# EAGLE library part NUCLEO-F411RE (library prj-ips-jmb)
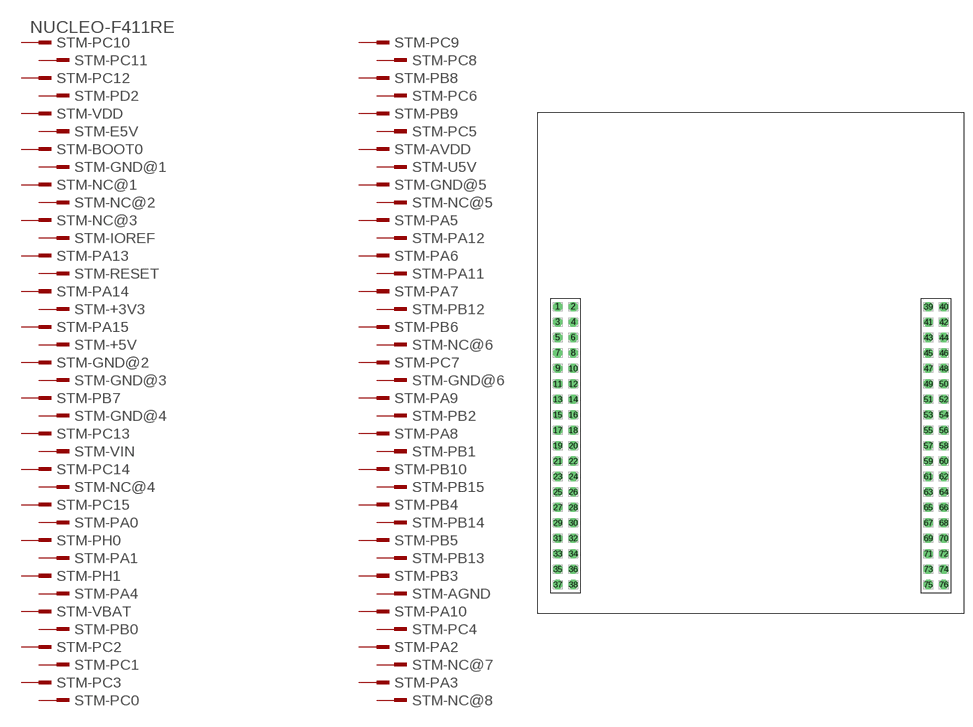
[diagram p1: symbol with the pads of CONN_STM32_NUCLEO; footprint CONN_STM32_NUCLEO]

Designator prefix STM-; gates PC10=MPINV PC11=MPIN PC12=MPIN PD2=MPIN VDD=MPIN E5V=MPIN BOOT0=MPIN GND@1=MPIN NC@1=MPIN NC@2=MPIN NC@3=MPIN IOREF=MPIN PA13=MPIN RESET=MPIN PA14=MPIN +3V3=MPIN PA15=MPIN +5V=MPIN GND@2=MPIN GND@3=MPIN PB7=MPIN GND@4=MPIN PC13=MPIN VIN=MPIN PC14=MPIN NC@4=MPIN PC15=MPIN PA0=MPIN PH0=MPIN PA1=MPIN PH1=MPIN PA4=MPIN VBAT=MPIN PB0=MPIN PC2=MPIN PC1=MPIN PC3=MPIN PC0=MPIN PC9=MPIN PC8=MPIN PB8=MPIN PC6=MPIN PB9=MPIN PC5=MPIN AVDD=MPIN U5V=MPIN GND@5=MPIN NC@5=MPIN PA5=MPIN PA12=MPIN PA6=MPIN PA11=MPIN PA7=MPIN PB12=MPIN PB6=MPIN NC@6=MPIN PC7=MPIN GND@6=MPIN PA9=MPIN PB2=MPIN PA8=MPIN PB1=MPIN PB10=MPIN PB15=MPIN PB4=MPIN PB14=MPIN PB5=MPIN PB13=MPIN PB3=MPIN AGND=MPIN PA10=MPIN PC4=MPIN PA2=MPIN NC@7=MPIN PA3=MPIN NC@8=MPIN

## NUCLEO-F411RE  [CONN_STM32_NUCLEO]
1  PC10:1  pas
2  PC11:1  pas
3  PC12:1  pas
4  PD2:1  pas
5  VDD:1  pas
6  E5V:1  pas
7  BOOT0:1  pas
8  GND@1:1  pas
9  NC@1:1  pas
10  NC@2:1  pas
11  NC@3:1  pas
12  IOREF:1  pas
13  PA13:1  pas
14  RESET:1  pas
15  PA14:1  pas
16  +3V3:1  pas
17  PA15:1  pas
18  +5V:1  pas
19  GND@2:1  pas
20  GND@3:1  pas
21  PB7:1  pas
22  GND@4:1  pas
23  PC13:1  pas
24  VIN:1  pas
25  PC14:1  pas
26  NC@4:1  pas
27  PC15:1  pas
28  PA0:1  pas
29  PH0:1  pas
30  PA1:1  pas
31  PH1:1  pas
32  PA4:1  pas
33  VBAT:1  pas
34  PB0:1  pas
35  PC2:1  pas
36  PC1:1  pas
37  PC3:1  pas
38  PC0:1  pas
39  PC9:1  pas
40  PC8:1  pas
41  PB8:1  pas
42  PC6:1  pas
43  PB9:1  pas
44  PC5:1  pas
45  AVDD:1  pas
46  U5V:1  pas
47  GND@5:1  pas
48  NC@5:1  pas
49  PA5:1  pas
50  PA12:1  pas
51  PA6:1  pas
52  PA11:1  pas
53  PA7:1  pas
54  PB12:1  pas
55  PB6:1  pas
56  NC@6:1  pas
57  PC7:1  pas
58  GND@6:1  pas
59  PA9:1  pas
60  PB2:1  pas
61  PA8:1  pas
62  PB1:1  pas
63  PB10:1  pas
64  PB15:1  pas
65  PB4:1  pas
66  PB14:1  pas
67  PB5:1  pas
68  PB13:1  pas
69  PB3:1  pas
70  AGND:1  pas
71  PA10:1  pas
72  PC4:1  pas
73  PA2:1  pas
74  NC@7:1  pas
75  PA3:1  pas
76  NC@8:1  pas

## Footprint CONN_STM32_NUCLEO (pad centres in mm)
drill 1 pad 1.5 octagon: 1 -1.27,22.86; 2 1.27,22.86; 3 -1.27,20.32; 4 1.27,20.32; 5 -1.27,17.78; 6 1.27,17.78; 7 -1.27,15.24; 8 1.27,15.24; 9 -1.27,12.7; 10 1.27,12.7; 11 -1.27,10.16; 12 1.27,10.16; 13 -1.27,7.62; 14 1.27,7.62; 15 -1.27,5.08; 16 1.27,5.08; 17 -1.27,2.54; 18 1.27,2.54; 19 -1.27,0; 20 1.27,0; 21 -1.27,-2.54; 22 1.27,-2.54; 23 -1.27,-5.08; 24 1.27,-5.08; 25 -1.27,-7.62; 26 1.27,-7.62; 27 -1.27,-10.16; 28 1.27,-10.16; 29 -1.27,-12.7; 30 1.27,-12.7; 31 -1.27,-15.24; 32 1.27,-15.24; 33 -1.27,-17.78; 34 1.27,-17.78; 35 -1.27,-20.32; 36 1.27,-20.32; 37 -1.27,-22.86; 38 1.27,-22.86; 39 59.69,22.86; 40 62.23,22.86; 41 59.69,20.32; 42 62.23,20.32; 43 59.69,17.78; 44 62.23,17.78; 45 59.69,15.24; 46 62.23,15.24; 47 59.69,12.7; 48 62.23,12.7; 49 59.69,10.16; 50 62.23,10.16; 51 59.69,7.62; 52 62.23,7.62; 53 59.69,5.08; 54 62.23,5.08; 55 59.69,2.54; 56 62.23,2.54; 57 59.69,0; 58 62.23,0; 59 59.69,-2.54; 60 62.23,-2.54; 61 59.69,-5.08; 62 62.23,-5.08; 63 59.69,-7.62; 64 62.23,-7.62; 65 59.69,-10.16; 66 62.23,-10.16; 67 59.69,-12.7; 68 62.23,-12.7; 69 59.69,-15.24; 70 62.23,-15.24; 71 59.69,-17.78; 72 62.23,-17.78; 73 59.69,-20.32; 74 62.23,-20.32; 75 59.69,-22.86; 76 62.23,-22.86